# Altium schematic symbol library Cyberdeck.SchLib: 178 symbols (part 2 of 5)
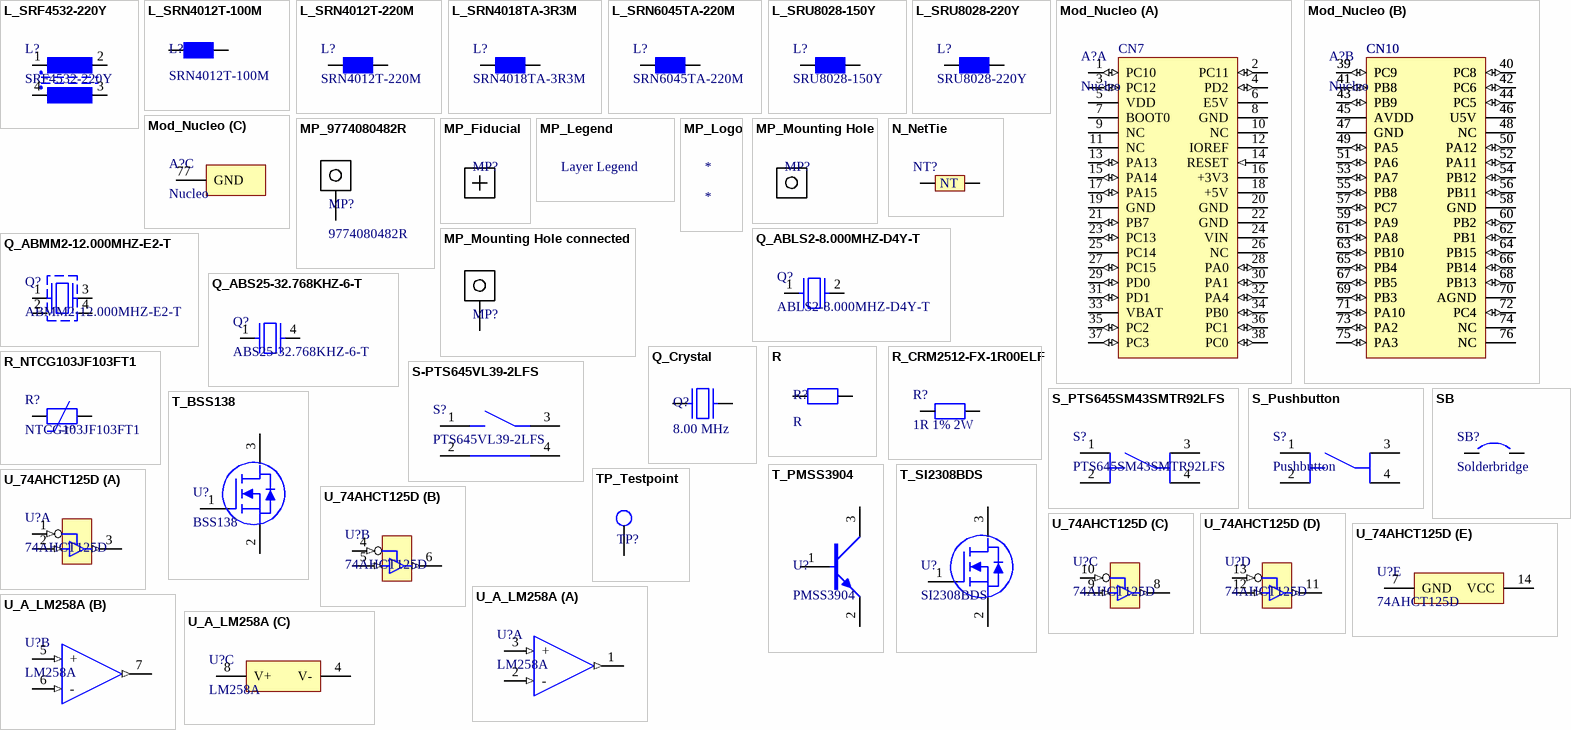
[diagram p6: symbols L_SRF4532-220Y to U_A_LM258A]

## L_SRN4012T-100M
designator L?, comment SRN4012T-100M
Surface Mount Power Inductor, SRN4012T Series, 10 H, 1.1 A, 800 mA, Semishielded, 0.18 ohm; Manufacturer 1: Bourns; Supplier 1: Digi-Key; Supplier Part Number 1: SRN4012T-100M-CT-ND; Case/Package: Nonstandard; Manufacturer Part Number 1: SRN4012T-100M; ComponentLink1URL: https://datasheet.ciiva.com/48954/70479816-48954559.pdf; ComponentLink1Description: https://datasheet.ciiva.com/48954/70479816-48954559.pdf
footprint SRN4012T (SRN4012T Series - Semi-shielded Power Inductors)
pins: 1, 2

## L_SRN4012T-220M
designator L?, comment SRN4012T-220M
Surface Mount Power Inductor, SRN4012T Series, 22 H, 620 mA, 500 mA, Semishielded, 0.4 ohm; Manufacturer 1: Bourns; Supplier 1: Digi-Key; Supplier Part Number 1: SRN4012T-220MCT-ND; Manufacturer Part Number 1: SRN4012T-220M; ComponentLink1URL: http://www.farnell.com/datasheets/1880652.pdf; ComponentLink1Description: http://www.farnell.com/datasheets/1880652.pdf; ComponentLink2URL: http://www.mouser.com/ds/2/54/rn4012t-778048.pdf; ComponentLink2Description: http://www.mouser.com/ds/2/54/rn4012t-778048.pdf; ComponentLink3URL: http://www.bourns.com/docs/Product-Datasheets/SRN4012T.pdf; ComponentLink3Description: http://www.bourns.com/docs/Product-Datasheets/SRN4012T.pdf
footprint SRN4012T (SRN4012T Series - Semi-shielded Power Inductors)
pins: 1, 2

## L_SRN4018TA-3R3M
designator L?, comment SRN4018TA-3R3M
FIXED IND 3.3UH 2A 55 MOHM; Manufacturer: Bourns; Supplier 1: Digi-Key; Supplier Part Number 1: SRN4018TA-3R3MCT-ND; Manufacturer Part Number: SRN4018TA-3R3M; ComponentLink1Description: https://www.bourns.com/docs/Product-Datasheets/SRN4018TA.pdf; ComponentLink1URL: https://www.bourns.com/docs/Product-Datasheets/SRN4018TA.pdf
footprint SRN4018TA (SRN4018TA Series - Semi-shielded Power Inductors)
pins: 1, 2

## L_SRN6045TA-220M
designator L?, comment SRN6045TA-220M
SRN6045TA-220M    Surface Mount Power Inductor, AEC-Q200, SRN6045TA Series, 22 H, 2.3 A, 3.3 A, Semishielded; Manufacturer: Bourns; Number of Outputs: 1; Min Input Voltage: 2.7V; Max Input Voltage: 5.5V; Min Output Voltage: 600mV; Output Current: 2A; Switching Frequency: 1MHz; Synchronous Rectifier: Yes; Output Type: Adjustable; Output Configuration: Positive; Supplier 1: Digi-Key; Supplier Part Number 1: SRN6045TA-220MCT-ND; Manufacturer Part Number: SRN6045TA-220M; ComponentLink1Description: https://www.bourns.com/docs/Product-Datasheets/SRN6045TA.pdf; ComponentLink1URL: https://www.bourns.com/docs/Product-Datasheets/SRN6045TA.pdf; Supplier 2: Digi-Key; Supplier Part Number 2: AP3429AKTTR-G1DICT-ND; Stock 2: 23700; Pricing 2: 1=0.42, 10=0.339, 100=0.2307, 500=0.17304, 1000=0.12978 (USD); Mount: Surface Mount; Case/Package: SOT-23-5; Min Operating Temperature: -40°C; Max Operating Temperature: 85°C; Packaging: Tape and Reel; Max Output Voltage: 5.5V
footprint SRN6045TA (SRN6045TA Series - Semi-shielded Power Inductors)
pins: 1, 2

## L_SRU8028-150Y
designator L?, comment SRU8028-150Y
Fixed Inductors 15uH 30% SMD 8028; Manufacturer 1: Bourns; Supplier 1: Digi-Key; Supplier Part Number 1: SRU8028-150YCT-ND; Manufacturer Part Number 1: SRU8028-150Y; ComponentLink1URL: https://datasheet.ciiva.com/48684/sru8028-48684958.pdf; ComponentLink1Description: https://datasheet.ciiva.com/48684/sru8028-48684958.pdf; ComponentLink2URL: https://datasheet.ciiva.com/17285/sru8028-17285547.pdf; ComponentLink2Description: https://datasheet.ciiva.com/17285/sru8028-17285547.pdf; ComponentLink3URL: https://datasheet.ciiva.com/6703/sru8028-6703878.pdf; ComponentLink3Description: https://datasheet.ciiva.com/6703/sru8028-6703878.pdf
footprint SRU8028 (SRU8028 Series - Shielded Power Inductors, IPC Medium Density)
pins: 1, 2

## L_SRU8028-220Y
designator L?, comment SRU8028-220Y
Fixed Inductors 22uH 30% SMD 8028; Manufacturer: Bourns; ComponentLink1URL: https://datasheet.ciiva.com/48684/sru8028-48684958.pdf; ComponentLink1Description: https://datasheet.ciiva.com/48684/sru8028-48684958.pdf; ComponentLink2URL: https://datasheet.ciiva.com/17285/sru8028-17285547.pdf; ComponentLink2Description: https://datasheet.ciiva.com/17285/sru8028-17285547.pdf; ComponentLink3URL: https://datasheet.ciiva.com/6703/sru8028-6703878.pdf; ComponentLink3Description: https://datasheet.ciiva.com/6703/sru8028-6703878.pdf; Supplier 1: Digi-Key; Supplier Part Number 1: SRU8028-220YCT-ND; Manufacturer Part Number: SRU8028-220Y; Case/Package: 8028; ComponentLink14URL: https://datasheet.ciiva.com/6691/sru8028-6691834.pdf; ComponentLink14Description: https://datasheet.ciiva.com/6691/sru8028-6691834.pdf; ComponentLink15URL: https://datasheet.ciiva.com/6691/sru8028-6691836.pdf; ComponentLink15Description: https://datasheet.ciiva.com/6691/sru8028-6691836.pdf; ComponentLink16URL: https://datasheet.ciiva.com/6161/sru8028-6161214.pdf; ComponentLink16Description: https://datasheet.ciiva.com/6161/sru8028-6161214.pdf; ComponentLink17URL: https://datasheet.ciiva.com/17285/sru8028-17285550.pdf; ComponentLink17Description: https://datasheet.ciiva.com/17285/sru8028-17285550.pdf
footprint SRU8028 (SRU8028 Series - Shielded Power Inductors, IPC Medium Density)
pins: 1, 2

## Mod_Nucleo
designator A?, comment Nucleo
footprint MOD NUCLEO
part A pins: 1 PC10 (io), 2 PC11 (io), 3 PC12 (io), 4 PD2 (io), 5 VDD (power), 6 E5V (power), 7 BOOT0, 8 GND (power), 9 NC, 10 NC, 11 NC, 12 IOREF (power), 13 PA13 (io), 14 RESET (in), 15 PA14 (io), 16 +3V3 (power), 17 PA15 (io), 18 +5V (power), 19 GND (power), 20 GND (power), 21 PB7 (io), 22 GND (power), 23 PC13 (io), 24 VIN (power), 25 PC14 (power), 26 NC, 27 PC15 (io), 28 PA0 (io), 29 PD0 (io), 30 PA1 (io), 31 PD1 (io), 32 PA4 (io), 33 VBAT (power), 34 PB0 (io), 35 PC2 (io), 36 PC1 (io), 37 PC3 (io), 38 PC0 (io)
part B pins: 39 PC9 (io), 39 PC9 (io), 40 PC8 (io), 40 PC8 (io), 41 PB8 (io), 41 PB8 (io), 42 PC6 (io), 42 PC6 (io), 43 PB9 (io), 43 PB9 (io), 44 PC5 (io), 44 PC5 (io), 45 AVDD (power), 45 AVDD (power), 46 U5V (power), 46 U5V (power), 47 GND (power), 47 GND (power), 48 NC, 48 NC, 49 PA5 (io), 49 PA5 (io), 50 PA12 (io), 50 PA12 (io), 51 PA6 (io), 51 PA6 (io), 52 PA11 (io), 52 PA11 (io), 53 PA7 (io), 53 PA7 (io), 54 PB12 (io), 54 PB12 (io), 55 PB8 (io), 55 PB8 (io), 56 PB11 (io), 56 PB11 (io), 57 PC7 (io), 57 PC7 (io), 58 GND (power), 58 GND (power), 59 PA9 (io), 59 PA9 (io), 60 PB2 (io), 60 PB2 (io), 61 PA8 (io), 61 PA8 (io), 62 PB1 (io), 62 PB1 (io), 63 PB10 (io), 63 PB10 (io), 64 PB15 (io), 64 PB15 (io), 65 PB4 (io), 65 PB4 (io), 66 PB14 (io), 66 PB14 (io), 67 PB5 (io), 67 PB5 (io), 68 PB13 (io), 68 PB13 (io), 69 PB3 (io), 69 PB3 (io), 70 AGND (power), 70 AGND (power), 71 PA10 (io), 71 PA10 (io), 72 PC4 (io), 72 PC4 (io), 73 PA2 (io), 73 PA2 (io), 74 NC, 74 NC, 75 PA3 (io), 75 PA3 (io), 76 NC, 76 NC
part C pins: 77 GND (power)
part A text: CN7
part B text: CN10

## MP_9774080482R
designator MP?, comment 9774080482R
WA-SMSI SMT Steel Spacer, M4 Thread Internal; Manufacturer: Wurth Electronics; Supplier 1: Farnell; Supplier Part Number 1: 2847858; Manufacturer Part Number: 9774080482R; ComponentLink1Description: http://www.farnell.com/datasheets/2580479.pdf; ComponentLink1URL: http://www.farnell.com/datasheets/2580479.pdf
footprint 9774080482 (WA-SMSI SMT Steel Spacer, M4)
pins: 1

## MP_Fiducial
designator MP?, comment Fiducial  (value not drawn)  (no BOM)
footprint REF1
footprint REF1 - small
footprint REF2
footprint REF2 - small
footprint REF3
footprint REF3 - small
footprint REF - smaller

## MP_Legend
designator ?  (value not drawn)  (no BOM)
Layer legend
footprint Layerlegend
footprint PCB LEGEND (Layerlegend)
text: Layer Legend

## MP_Logo
designator *
footprint Safematic_Logo (Logo)

## MP_Mounting Hole
designator MP?, comment Mounting Hole  (value not drawn)  (no BOM)
Different Mounting holes
footprint M3x08S - Erdung
footprint M25x05S
footprint M3x08S
footprint 9774080482 (WA-SMSI SMT Steel Spacer, M4)
footprint M2 2.3

## MP_Mounting Hole connected
designator MP?, comment Mounting Hole  (value not drawn)  (no BOM)
Different Mounting holes; Manufacturer: Wurth Electronics; Manufacturer Part Number: 9774080482R; Supplier 1: Farnell; Supplier Part Number 1: 2847858; Stock 1: 49; Pricing 1: 1=1.59, 50=1.51, 100=1.44 (EUR)
footprint M3x08S - Erdung
footprint 9774080482 (WA-SMSI SMT Steel Spacer, M4)
pins: 1

## N_NetTie
designator NT?, comment NetTie  (value not drawn)  (net tie, no BOM)
Net tie
footprint NetTie (0603 fooprint)
footprint NETTIE_TH
pins: 1, 2
text: NT

## Q_ABLS2-8.000MHZ-D4Y-T
designator Q?, comment ABLS2-8.000MHZ-D4Y-T
8MHz ±30ppm Crystal 18pF 80 Ohm -40°C ~ 85°C  Surface Mount HC49/US; Manufacturer: Abracon; Supplier 1: Digi-Key; Supplier Part Number 1: 535-9864-1-ND; Manufacturer Part Number: ABLS2-8.000MHZ-D4Y-T; ComponentLink1URL: https://datasheet.ciiva.com/15116/getdatasheetpartid-719893-15116778.pdf; ComponentLink1Description: https://datasheet.ciiva.com/15116/getdatasheetpartid-719893-15116778.pdf; ComponentLink2URL: https://datasheet.ciiva.com/3174/abls2-3174136.pdf; ComponentLink2Description: https://datasheet.ciiva.com/3174/abls2-3174136.pdf; ComponentLink3URL: https://datasheet.ciiva.com/854/abls2-854378.pdf; ComponentLink3Description: https://datasheet.ciiva.com/854/abls2-854378.pdf; ComponentLink4URL: https://datasheet.ciiva.com/854/abls2-854379.pdf; ComponentLink4Description: https://datasheet.ciiva.com/854/abls2-854379.pdf; ComponentLink5URL: https://datasheet.ciiva.com/7998/1749648-7998491.pdf; ComponentLink5Description: https://datasheet.ciiva.com/7998/1749648-7998491.pdf; ComponentLink6URL: https://datasheet.ciiva.com/854/abls2-854380.pdf; ComponentLink6Description: https://datasheet.ciiva.com/854/abls2-854380.pdf; ComponentLink7URL: https://datasheet.ciiva.com/28508/1749648-28508412.pdf; ComponentLink7Description: https://datasheet.ciiva.com/28508/1749648-28508412.pdf; ComponentLink8URL: https://datasheet.ciiva.com/16292/abls2-16292557.pdf; ComponentLink8Description: https://datasheet.ciiva.com/16292/abls2-16292557.pdf
footprint ABLS2 (CRYSTAL Abracon LLC)
pins: 1, 2

## Q_ABMM2-12.000MHZ-E2-T
designator Q?, comment ABMM2-12.000MHZ-E2-T
12MHz ±20ppm Crystal 18pF 50 Ohm -20°C ~ 70°C  Surface Mount 4-SMD, No Lead (DFN, LCC); Manufacturer: Abracon; Supplier 1: Digi-Key; Supplier Part Number 1: 535-9631-1-ND; Manufacturer Part Number: ABMM2-12.000MHZ-E2-T; Case/Package: CSMD; ComponentLink1URL: https://datasheet.ciiva.com/15116/getdatasheetpartid-719825-15116727.pdf; ComponentLink1Description: https://datasheet.ciiva.com/15116/getdatasheetpartid-719825-15116727.pdf; ComponentLink2URL: https://datasheet.ciiva.com/855/abmm2-855417.pdf; ComponentLink2Description: https://datasheet.ciiva.com/855/abmm2-855417.pdf; ComponentLink3URL: https://datasheet.ciiva.com/3176/abmm2-3176137.pdf; ComponentLink3Description: https://datasheet.ciiva.com/3176/abmm2-3176137.pdf; ComponentLink4URL: https://datasheet.ciiva.com/855/abmm2-855418.pdf; ComponentLink4Description: https://datasheet.ciiva.com/855/abmm2-855418.pdf; ComponentLink5URL: https://datasheet.ciiva.com/855/abmm2-855419.pdf; ComponentLink5Description: https://datasheet.ciiva.com/855/abmm2-855419.pdf; ComponentLink6URL: https://datasheet.ciiva.com/16214/abmm2-16214428.pdf; ComponentLink6Description: https://datasheet.ciiva.com/16214/abmm2-16214428.pdf
footprint ABMM2
pins: 1, 2, 3, 4 3

## Q_ABS25-32.768KHZ-6-T
designator Q?, comment ABS25-32.768KHZ-6-T
32.768kHz ±20ppm Crystal 6pF 50 kOhm -40°C ~ 85°C  Surface Mount 4-SOJ, 5.50mm pitch; Manufacturer: Abracon; Supplier 1: Digi-Key; Supplier Part Number 1: 535-10240-1-ND; Manufacturer Part Number: ABS25-32.768KHZ-6-T; Case/Package: SMD/SMT; ComponentLink1URL: https://datasheet.ciiva.com/854/abs25-854528.pdf; ComponentLink1Description: https://datasheet.ciiva.com/854/abs25-854528.pdf; ComponentLink2URL: https://datasheet.ciiva.com/26909/getdatasheetpartid-722397-26909970.pdf; ComponentLink2Description: https://datasheet.ciiva.com/26909/getdatasheetpartid-722397-26909970.pdf; ComponentLink3URL: https://datasheet.ciiva.com/854/abs25-854529.pdf; ComponentLink3Description: https://datasheet.ciiva.com/854/abs25-854529.pdf; ComponentLink4URL: https://datasheet.ciiva.com/5788/abs25-5788102.pdf; ComponentLink4Description: https://datasheet.ciiva.com/5788/abs25-5788102.pdf; ComponentLink5URL: https://datasheet.ciiva.com/7998/1856019-7998662.pdf; ComponentLink5Description: https://datasheet.ciiva.com/7998/1856019-7998662.pdf; ComponentLink6URL: https://datasheet.ciiva.com/1357/1856019-1357324.pdf; ComponentLink6Description: https://datasheet.ciiva.com/1357/1856019-1357324.pdf; ComponentLink7URL: https://datasheet.ciiva.com/854/abs25-854527.pdf; ComponentLink7Description: https://datasheet.ciiva.com/854/abs25-854527.pdf
footprint ABS25
pins: 1, 4

## Q_Crystal
designator Q?, comment 8.00 MHz
Crystal, generic
footprint ABLS2 (CRYSTAL Abracon LLC)
pins: 1, 2

## R
designator R?
Resistor, generic
footprint 0402_R
footprint 0603_R
footprint 0805_R
footprint 1206_R
footprint 1210_R
footprint 1218_R
footprint 2010_R
footprint 2512_R
footprint 0201_R (Chip Resistor, 2-Leads, Body 0.60x0.30mm, IPC Medium Density)
footprint 01005_R (Chip Resistor, 2-Leads, Body 0.40x0.20mm, IPC Medium Density)
footprint 10mm_tht_r
footprint 10.61mm_tht_r
pins: 1, 2

## R_CRM2512-FX-1R00ELF
designator R?, comment 1R 1% 2W
RES SMD 1 OHM 1% 2W 2512; Manufacturer 1: Bourns; Manufacturer Part Number 1: CRM2512-FX-1R00ELF; Supplier 1: Digi-Key; Supplier Part Number 1: CRM2512-FX-1R00ELFCT-ND; Case/Package: 2512; ComponentLink1URL: https://datasheet.ciiva.com/22713/1695365-22713390.pdf; ComponentLink1Description: https://datasheet.ciiva.com/22713/1695365-22713390.pdf; ComponentLink2URL: https://datasheet.ciiva.com/2591/crm-2591396.pdf; ComponentLink2Description: https://datasheet.ciiva.com/2591/crm-2591396.pdf
footprint 2512_R
pins: 1 2, 2

## R_NTCG103JF103FT1
designator R?, comment NTCG103JF103FT1
THERMISTOR NTC 10K OHM 1% 0402; Manufacturer: TDK; Supplier 1: Digi-Key; Supplier Part Number 1: 445-2550-1-ND; Manufacturer Part Number: NTCG103JF103FT1; Case/Package: 0402; ComponentLink1URL: https://datasheet.ciiva.com/2848/ntcg103jf103ft1-web-2848583.pdf; ComponentLink1Description: https://datasheet.ciiva.com/2848/ntcg103jf103ft1-web-2848583.pdf; ComponentLink2URL: https://datasheet.ciiva.com/2848/ntcg103jf103ft1-web-2848584.pdf; ComponentLink2Description: https://datasheet.ciiva.com/2848/ntcg103jf103ft1-web-2848584.pdf; ComponentLink3URL: https://datasheet.ciiva.com/2848/ntcg103jf103ft1-web-2848585.pdf; ComponentLink3Description: https://datasheet.ciiva.com/2848/ntcg103jf103ft1-web-2848585.pdf
footprint 0402_R
pins: 1, 2
text: -t°

## S-PTS645VL39-2LFS
designator S?, comment PTS645VL39-2LFS
SWITCH TACTILE SPST-NO 0.05A 12V; Manufacturer: ITT C&K; Mechanical Life: 100000Cycles; Actuator Material: Nylon,Polyamide; Operating Force: 130gf; Throw Configuration: SPST; Current Rating: 50mA; Illumination Type: Illuminated,Non-Illuminated; Switch Function: Off-Mom; Actuator Type: Standard; Supplier 1: Digi-Key; Supplier Part Number 1: CKN9103-ND; Manufacturer Part Number: PTS645VL39-2LFS; RoHS: Yes; Mount: Through Hole; Contact Plating: Silver; Contact Material: Brass,Bronze,Silver; Color: Black; Min Operating Temperature: -20°C; Max Operating Temperature: 60°C; Packaging: Bulk; Max Voltage Rating (DC): 12V; Termination: PC Pins; Voltage Rating (DC): 12V; Package Quantity: 1000; Max Current Rating: 50mA; Orientation: Right Angle; Length: 7.5mm; Depth: 7.8mm; REACH SVHC: No SVHC; Lead Free: Lead Free; ComponentLink1URL: https://www.ckswitches.com/media/1471/pts645.pdf?src-supplier=Digi-Key; ComponentLink1Description: https://www.ckswitches.com/media/1471/pts645.pdf?src-supplier=Digi-Key; ComponentLink2URL: https://www.verical.com/server-webapp/html/getDatasheet?partID=764616&src-supplier=Verical; ComponentLink2Description: https://www.verical.com/server-webapp/html/getDatasheet?partID=764616&src-supplier=Verical
footprint PTS645VL31-2 LFS
pins: 1 16, 2 17, 3 18, 4 19

## S_PTS645SM43SMTR92LFS
designator S?, comment PTS645SM43SMTR92LFS
SWITCH TACTILE SPST-NO 0.05A 12V; Manufacturer 1: ITT C&K; Supplier 1: Digi-Key; Supplier Part Number 1: CKN9112CT-ND; Manufacturer Part Number 1: PTS645SM43SMTR92LFS; ComponentLink1URL: https://datasheet.ciiva.com/29931/getdatasheetpartid-764615-29931183.pdf; ComponentLink1Description: https://datasheet.ciiva.com/29931/getdatasheetpartid-764615-29931183.pdf; ComponentLink2URL: https://datasheet.ciiva.com/29903/getdatasheetpartid-786341-29903846.pdf; ComponentLink2Description: https://datasheet.ciiva.com/29903/getdatasheetpartid-786341-29903846.pdf; ComponentLink3URL: https://datasheet.ciiva.com/14920/pts645-14920734.pdf; ComponentLink3Description: https://datasheet.ciiva.com/14920/pts645-14920734.pdf; ComponentLink4URL: https://datasheet.ciiva.com/14920/pts645-14920735.pdf; ComponentLink4Description: https://datasheet.ciiva.com/14920/pts645-14920735.pdf; ComponentLink5URL: https://datasheet.ciiva.com/14920/pts645-14920733.pdf; ComponentLink5Description: https://datasheet.ciiva.com/14920/pts645-14920733.pdf
footprint PTS645S (PTS645S  SWITCH TACTILE SPST-NO)
pins: 1 16, 2 17, 3 18, 4 19

## S_Pushbutton
designator S?, comment Pushbutton
Generic Pushbutton
footprint PTS645S (PTS645S  SWITCH TACTILE SPST-NO)
pins: 1 16, 2 17, 3 18, 4 19

## SB
designator SB?, comment Solderbridge
footprint Solderjumper
pins: 1, 2

## T_BSS138
designator U?, comment BSS138
MOSFET N-CH 50V 220MA SOT-23; Manufacturer: ON Semiconductor / Fairchild; Supplier 1: Digi-Key; Supplier Part Number 1: BSS138DKR-ND; Manufacturer Part Number: BSS138; Case/Package: SOT-23; ComponentLink1URL: https://datasheet.ciiva.com/931/bss138-931776.pdf; ComponentLink1Description: https://datasheet.ciiva.com/931/bss138-931776.pdf; ComponentLink2URL: https://datasheet.ciiva.com/1190/193736-1190130.pdf; ComponentLink2Description: https://datasheet.ciiva.com/1190/193736-1190130.pdf; ComponentLink3URL: https://datasheet.ciiva.com/1190/193736-1190131.pdf; ComponentLink3Description: https://datasheet.ciiva.com/1190/193736-1190131.pdf; ComponentLink4URL: https://datasheet.ciiva.com/1254/193736-1254983.pdf; ComponentLink4Description: https://datasheet.ciiva.com/1254/193736-1254983.pdf; ComponentLink5URL: https://datasheet.ciiva.com/3304/bss138-3304423.pdf; ComponentLink5Description: https://datasheet.ciiva.com/3304/bss138-3304423.pdf; ComponentLink6URL: https://datasheet.ciiva.com/3304/bss138-3304424.pdf; ComponentLink6Description: https://datasheet.ciiva.com/3304/bss138-3304424.pdf; ComponentLink7URL: https://datasheet.ciiva.com/22655/193736-22655240.pdf; ComponentLink7Description: https://datasheet.ciiva.com/22655/193736-22655240.pdf; ComponentLink8URL: https://datasheet.ciiva.com/16834/bss138-16834843.pdf; ComponentLink8Description: https://datasheet.ciiva.com/16834/bss138-16834843.pdf; ComponentLink9URL: https://datasheet.ciiva.com/27050/784896-27050043.pdf; ComponentLink9Description: https://datasheet.ciiva.com/27050/784896-27050043.pdf; ComponentLink10URL: https://datasheet.ciiva.com/26229/bss138-26229007.pdf; ComponentLink10Description: https://datasheet.ciiva.com/26229/bss138-26229007.pdf
footprint SOT-23 (SOT23, 3-Leads, Body 2.90x2.45mm, Pitch 0.95mm, IPC Medium Density)
pins: 1 G, 2 S, 3 D

## T_PMSS3904
designator U?, comment PMSS3904
TRANS NPN 40V 0.1A SOT323; Manufacturer: NXP Semiconductors; Manufacturer Part Number: PMSS3904,115; Max Power Dissipation: 200mW; Collector Base Voltage (VCBO): 60V; Max Collector Current: 100mA; Emitter Base Voltage (VEBO): 6V; Element Configuration: Single; Gain Bandwidth Product: 180MHz; Number of Elements: 1; Supplier 1: Digi-Key; Supplier Part Number 1: 1727-6290-1-ND; RoHS: Yes; Stock 1: 5101; Pricing 1: 1 = 0.21000, 10 = 0.17400, 100 = 0.09250, 500 = 0.06084, 1000 = 0.04137 (USD); Mount: Surface Mount; Case/Package: SOT-323; Number of Pins: 3; Min Operating Temperature: -65°C; Max Operating Temperature: 150°C; Collector Emitter Voltage (VCEO): 40V; Packaging: Tape and Reel; Package Quantity: 1; Polarity: NPN; Transition Frequency: 180MHz; Collector Emitter Breakdown Voltage: 40V; Frequency: 180MHz; Max Breakdown Voltage: 40V; Power Dissipation: 200mW; Radiation Hardening: No; Lead Free: Lead Free; ComponentLink1URL: http://www.nxp.com/documents/data_sheet/PMSS3904.pdf; ComponentLink1Description: http://www.nxp.com/documents/data_sheet/PMSS3904.pdf; ComponentLink2URL: http://www.mouser.com/ds/2/302/PMSS3904-353457.pdf; ComponentLink2Description: http://www.mouser.com/ds/2/302/PMSS3904-353457.pdf
footprint SOT323
pins: 1 G, 2 S, 3 D

## T_SI2308BDS
designator U?, comment SI2308BDS
Trans MOSFET N-CH 60V 1.9A 3-Pin SOT-23 T/R; Manufacturer 1: Vishay; Manufacturer Part Number 1: SI2308BDS-T1-GE3; Supplier 1: Digi-Key; Supplier Part Number 1: SI2308BDS-T1-GE3CT-ND; Case/Package: SOT-23; ComponentLink1URL: https://datasheet.ciiva.com/17068/0900766b80ed1e93-17068482.pdf; ComponentLink1Description: https://datasheet.ciiva.com/17068/0900766b80ed1e93-17068482.pdf; ComponentLink2URL: https://datasheet.ciiva.com/26139/si2308bd-26139136.pdf; ComponentLink2Description: https://datasheet.ciiva.com/26139/si2308bd-26139136.pdf; ComponentLink3URL: https://datasheet.ciiva.com/28603/1911751-28603483.pdf; ComponentLink3Description: https://datasheet.ciiva.com/28603/1911751-28603483.pdf; ComponentLink4URL: https://datasheet.ciiva.com/6388/si2308bd-6388236.pdf; ComponentLink4Description: https://datasheet.ciiva.com/6388/si2308bd-6388236.pdf; ComponentLink5URL: https://datasheet.ciiva.com/6388/si2308bd-6388237.pdf; ComponentLink5Description: https://datasheet.ciiva.com/6388/si2308bd-6388237.pdf; ComponentLink6URL: https://datasheet.ciiva.com/7643/si2308bd-7643237.pdf; ComponentLink6Description: https://datasheet.ciiva.com/7643/si2308bd-7643237.pdf; ComponentLink7URL: https://datasheet.ciiva.com/16221/si2308bd-16221719.pdf; ComponentLink7Description: https://datasheet.ciiva.com/16221/si2308bd-16221719.pdf; ComponentLink8URL: https://datasheet.ciiva.com/6388/si2308bd-6388235.pdf; ComponentLink8Description: https://datasheet.ciiva.com/6388/si2308bd-6388235.pdf
footprint SOT-23 (SOT23, 3-Leads, Body 2.90x2.45mm, Pitch 0.95mm, IPC Medium Density)
pins: 1 G, 2 S, 3 D

## TP_Testpoint
designator TP?, comment TP  (value not drawn)  (no BOM)
Testpoint
footprint Testpoint_50mil (Testpoint)
footprint Pin Header 1x1 TH Pitch 2.54mm TP (PinHeader 1x1 TH Pitch 2.54mm)
footprint 1040
footprint 1002m (Vogt 1002m)
pins: 1

## U_74AHCT125D
designator U?, comment 74AHCT125D
74AHCT125D/SO14/REEL13//; Manufacturer: NXP Semiconductors; Manufacturer Part Number: 74AHCT125D,118; Logic Function: Buffer,Inverting; Polarity: Non-Inverting; Max Supply Voltage: 5.5V; Min Supply Voltage: 4.5V; Propagation Delay: 11ns; Low Level Output Current: 8mA; Number of Input Lines: 4; High Level Output Current: -8mA; Operating Supply Voltage: 5V; Quiescent Current: 2uA; Number of Bits per Element: 1; Supplier 1: Digi-Key; Supplier Part Number 1: 1727-7293-1-ND; RoHS: Yes; Stock 1: 1450; Pricing 1: 1 = 0.43000, 10 = 0.34900, 25 = 0.31920, 100 = 0.23760, 250 = 0.21536, 500 = 0.17822, 1000 = 0.13367 (USD); Mount: Surface Mount; Case/Package: SO; Number of Pins: 14; Contact Plating: Gold; Min Operating Temperature: -40°C; Max Operating Temperature: 125°C; Packaging: Tape and Reel; Package Quantity: 2500; Number of Output Lines: 4; Number of Inputs: 4; Number of Channels: 4; Number of Outputs: 4; Number of Elements: 4; Turn-On Delay Time: 11ns; Radiation Hardening: No; Lead Free: Lead Free; ComponentLink1URL: http://www.nxp.com/documents/data_sheet/74AHC_AHCT125.pdf?src-supplier=Digi-Key; ComponentLink1Description: http://www.nxp.com/documents/data_sheet/74AHC_AHCT125.pdf?src-supplier=Digi-Key; ComponentLink2URL: http://ics.nxp.com/logic/to/documents/data_sheet/74AHC_AHCT125.pdf?src-supplier=Avnet+Europe; ComponentLink2Description: http://ics.nxp.com/logic/to/documents/data_sheet/74AHC_AHCT125.pdf?src-supplier=Avnet+Europe
footprint TSSOP-14 (TSOP, 14-Leads, Body 5.00x4.40mm, Pitch 0.65mm, IPC Medium Density)
footprint SOP 14 (SOIC, 14-Leads, Body 8.65x3.80mm, Pitch 1.27mm, IPC Medium Density)
part A pins: 1 (in), 2 (in), 3 (out)
part B pins: 4 (in), 5 (in), 6 (out)
part C pins: 8 (out), 9 (in), 10 (in)
part D pins: 11 (out), 12 (in), 13 (in)
part E pins: 7 GND (power), 14 VCC (power)

## U_A_LM258A
designator U?, comment LM258A
IC OPAMP GP 700KHZ 8SOIC; Manufacturer 1: Texas Instruments; Manufacturer Part Number 1: LM258ADR; ComponentLink1URL: https://datasheet.ciiva.com/46382/1874566-46382412.pdf; ComponentLink1Description: https://datasheet.ciiva.com/46382/1874566-46382412.pdf; ComponentLink2URL: https://datasheet.ciiva.com/26264/lm358a-26264541.pdf; ComponentLink2Description: https://datasheet.ciiva.com/26264/lm358a-26264541.pdf; ComponentLink3URL: https://datasheet.ciiva.com/22657/1874566-22657182.pdf; ComponentLink3Description: https://datasheet.ciiva.com/22657/1874566-22657182.pdf; ComponentLink4URL: https://datasheet.ciiva.com/1795/lm258a-1795564.pdf; ComponentLink4Description: https://datasheet.ciiva.com/1795/lm258a-1795564.pdf; ComponentLink5URL: https://datasheet.ciiva.com/2973/lm358a-2973282.pdf; ComponentLink5Description: https://datasheet.ciiva.com/2973/lm358a-2973282.pdf; ComponentLink6URL: https://datasheet.ciiva.com/1795/lm258a-1795562.pdf; ComponentLink6Description: https://datasheet.ciiva.com/1795/lm258a-1795562.pdf; ComponentLink7URL: https://datasheet.ciiva.com/1795/lm258a-1795563.pdf; ComponentLink7Description: https://datasheet.ciiva.com/1795/lm258a-1795563.pdf; ComponentLink8URL: https://datasheet.ciiva.com/1795/cd00000464-1795677.pdf; ComponentLink8Description: https://datasheet.ciiva.com/1795/cd00000464-1795677.pdf; ComponentLink9URL: https://datasheet.ciiva.com/1795/cd00000464-1795678.pdf; ComponentLink9Description: https://datasheet.ciiva.com/1795/cd00000464-1795678.pdf; ComponentLink10URL: https://datasheet.ciiva.com/22696/1862552-22696219.pdf; ComponentLink10Description: https://datasheet.ciiva.com/22696/1862552-22696219.pdf; ComponentLink11URL: https://datasheet.ciiva.com/1795/cd00000464-1795676.pdf; ComponentLink11Description: https://datasheet.ciiva.com/1795/cd00000464-1795676.pdf; Supplier 1: Digi-Key; Supplier Part Number 1: 296-15169-1-ND; Case/Package: SOIC
footprint SO8 (SOIC, 8-Leads, Body 4.90x3.90mm, Pitch 1.27mm, IPC Medium Density)
part A pins: 1 (out), 2 - (in), 3 + (in)
part B pins: 5 + (in), 6 - (in), 7 1 (out)
part C pins: 4 V- (power), 8 V+ (power)

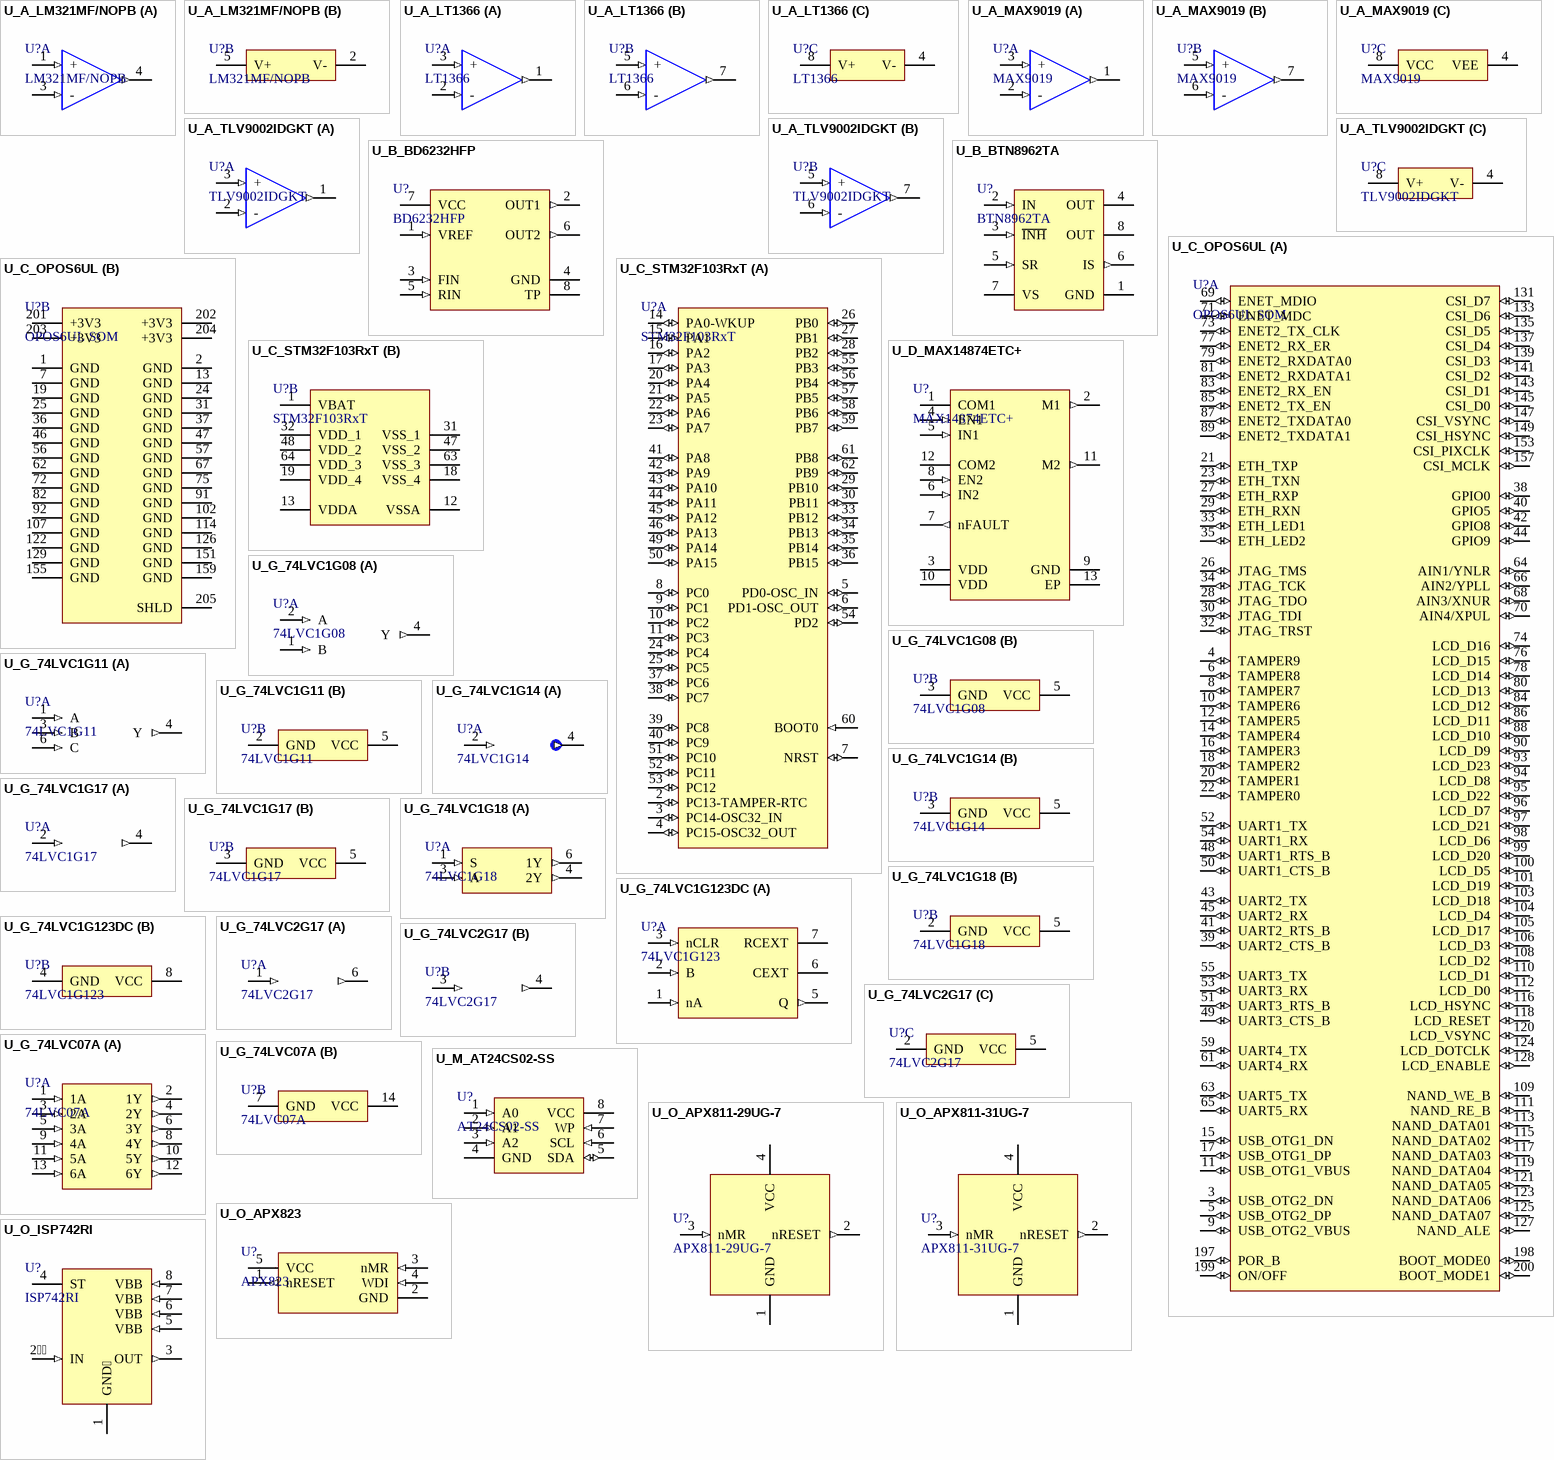
[diagram p2: symbols U_A_LM321MF/NOPB to U_O_ISP742RI]

## U_A_LM321MF/NOPB
designator U?, comment LM321MF/NOPB
Operational Amplifiers - Op Amps LOW PWR SGL OP AMP; Manufacturer 1: TI National Semiconductor; Supplier 1: Digi-Key; Supplier Part Number 1: LM321MF/NOPBCT-ND; Manufacturer Part Number 1: LM321MF/NOPB; Case/Package: SOT-23; ComponentLink1URL: https://datasheet.ciiva.com/14151/lm321-eng-tds-14151390.pdf; ComponentLink1Description: https://datasheet.ciiva.com/14151/lm321-eng-tds-14151390.pdf; ComponentLink2URL: https://datasheet.ciiva.com/31417/1771499-31417568.pdf; ComponentLink2Description: https://datasheet.ciiva.com/31417/1771499-31417568.pdf; ComponentLink3URL: https://datasheet.ciiva.com/2973/lm321-2973328.pdf; ComponentLink3Description: https://datasheet.ciiva.com/2973/lm321-2973328.pdf; ComponentLink4URL: https://datasheet.ciiva.com/5703/1771499-5703818.pdf; ComponentLink4Description: https://datasheet.ciiva.com/5703/1771499-5703818.pdf; ComponentLink5URL: https://datasheet.ciiva.com/6631/lm321-6631352.pdf; ComponentLink5Description: https://datasheet.ciiva.com/6631/lm321-6631352.pdf; ComponentLink6URL: https://datasheet.ciiva.com/5703/1771499-5703819.pdf; ComponentLink6Description: https://datasheet.ciiva.com/5703/1771499-5703819.pdf; ComponentLink7URL: https://datasheet.ciiva.com/14347/lm321-14347190.pdf; ComponentLink7Description: https://datasheet.ciiva.com/14347/lm321-14347190.pdf; ComponentLink8URL: https://datasheet.ciiva.com/6631/lm321-6631351.pdf; ComponentLink8Description: https://datasheet.ciiva.com/6631/lm321-6631351.pdf; ComponentLink9URL: https://datasheet.ciiva.com/6631/lm321-6631353.pdf; ComponentLink9Description: https://datasheet.ciiva.com/6631/lm321-6631353.pdf
footprint SOT-23-5
part A pins: 1 + (in), 3 - (in), 4 Out (out)
part B pins: 2 V- (power), 5 V+ (power)

## U_A_LT1366
designator U?, comment LT1366
IC OPAMP GP 400KHZ RRO 8SO; Manufacturer 1: Linear Technology; Manufacturer Part Number 1: LT1366CS8#PBF; Supplier 1: Digi-Key; Supplier Part Number 1: LT1366CS8#PBF-ND; Case/Package: SOIC; ComponentLink1URL: https://datasheet.ciiva.com/26851/lt1366cs8-pbf-26851234.pdf; ComponentLink1Description: https://datasheet.ciiva.com/26851/lt1366cs8-pbf-26851234.pdf; ComponentLink2URL: https://datasheet.ciiva.com/5704/1631324-5704377.pdf; ComponentLink2Description: https://datasheet.ciiva.com/5704/1631324-5704377.pdf; ComponentLink3URL: https://datasheet.ciiva.com/1795/2500-1795095.pdf; ComponentLink3Description: https://datasheet.ciiva.com/1795/2500-1795095.pdf
footprint SO8 (SOIC, 8-Leads, Body 4.90x3.90mm, Pitch 1.27mm, IPC Medium Density)
part A pins: 1 (out), 2 - (in), 3 + (in)
part B pins: 5 + (in), 6 - (in), 7 1 (out)
part C pins: 4 V- (power), 8 V+ (power)

## U_A_MAX9019
designator U?, comment MAX9019
IC COMPARATOR DUAL SOT23-8 MAX9019; Manufacturer 1: Maxim; Manufacturer Part Number 1: MAX9019EKA+T; Supplier 1: Digi-Key; Supplier Part Number 1: MAX9019EKA+TCT-ND; Case/Package: SOT-23-8; ComponentLink1URL: https://datasheet.ciiva.com/4463/max9015-max9020-109477-4463522.pdf; ComponentLink1Description: https://datasheet.ciiva.com/4463/max9015-max9020-109477-4463522.pdf; ComponentLink2URL: https://datasheet.ciiva.com/30481/0900766b81253439-30481618.pdf; ComponentLink2Description: https://datasheet.ciiva.com/30481/0900766b81253439-30481618.pdf; ComponentLink3URL: https://datasheet.ciiva.com/1828/max9015-max9020-1828112.pdf; ComponentLink3Description: https://datasheet.ciiva.com/1828/max9015-max9020-1828112.pdf; ComponentLink4URL: https://datasheet.ciiva.com/26859/max9019eka-t-26859996.pdf; ComponentLink4Description: https://datasheet.ciiva.com/26859/max9019eka-t-26859996.pdf; ComponentLink5URL: https://datasheet.ciiva.com/1828/max9015-max9020-1828111.pdf; ComponentLink5Description: https://datasheet.ciiva.com/1828/max9015-max9020-1828111.pdf; ComponentLink6URL: https://datasheet.ciiva.com/2970/max9015-max9020-2970974.pdf; ComponentLink6Description: https://datasheet.ciiva.com/2970/max9015-max9020-2970974.pdf; ComponentLink7URL: https://datasheet.ciiva.com/1828/max9015-max9020-1828113.pdf; ComponentLink7Description: https://datasheet.ciiva.com/1828/max9015-max9020-1828113.pdf; ComponentLink8URL: https://datasheet.ciiva.com/17397/max9015-max9020-17397095.pdf; ComponentLink8Description: https://datasheet.ciiva.com/17397/max9015-max9020-17397095.pdf
footprint SOT23-8 (TSOP, 8-Leads, Body 2.90x1.63mm, Pitch 0.65mm, IPC Medium Density)
part A pins: 1 (out), 2 - (in), 3 + (in)
part B pins: 5 + (in), 6 - (in), 7 1 (out)
part C pins: 4 VEE (power), 8 VCC (power)

## U_A_TLV9002IDGKT
designator U?, comment TLV9002IDGKT
TLV9002 Low-Power, Rail-to-Rail In and Out, 1-MHz Operational Amplifier; Manufacturer: Texas Instruments; Supplier 1: Digi-Key; Supplier Part Number 1: 296-49509-1-ND; Manufacturer Part Number: TLV9002IDGKT; ComponentLink1Description: http://www.ti.com/lit/ds/symlink/tlv9002.pdf; ComponentLink1URL: http://www.ti.com/lit/ds/symlink/tlv9002.pdf
footprint DGK (S-PDSO-G8) (TSOP, 8-Leads, Body 3.00x3.00mm, Pitch 0.65mm, IPC Medium Density)
part A pins: 1 (out), 2 - (in), 3 + (in)
part B pins: 5 + (in), 6 - (in), 7 1 (out)
part C pins: 4 V- (power), 8 V+ (power)

## U_B_BD6232HFP
designator U?, comment BD6232HFP
ROHM   BD6232HFP-TR   H-BRIDGE DRIVER 36V MAX, 2.0 A, HRP7; Supplier 1: Digi-Key; Supplier Part Number 1: BD6232HFPCT-ND; Manufacturer 1: Rohm; Manufacturer Part Number 1: BD6232HFP-TR; Case/Package: TO-263-8; ComponentLink1URL: https://datasheet.ciiva.com/4896/bd623x-e-209363-4896082.pdf; ComponentLink1Description: https://datasheet.ciiva.com/4896/bd623x-e-209363-4896082.pdf; ComponentLink2URL: https://datasheet.ciiva.com/1151/1645390-1151665.pdf; ComponentLink2Description: https://datasheet.ciiva.com/1151/1645390-1151665.pdf; ComponentLink3URL: https://datasheet.ciiva.com/26881/bd6232hfp-tr-26881240.pdf; ComponentLink3Description: https://datasheet.ciiva.com/26881/bd6232hfp-tr-26881240.pdf; ComponentLink4URL: https://datasheet.ciiva.com/22732/1645390-22732778.pdf; ComponentLink4Description: https://datasheet.ciiva.com/22732/1645390-22732778.pdf; ComponentLink5URL: https://datasheet.ciiva.com/1148/1645390-1148622.pdf; ComponentLink5Description: https://datasheet.ciiva.com/1148/1645390-1148622.pdf; ComponentLink6URL: https://datasheet.ciiva.com/1959/bd623x-e-1959626.pdf; ComponentLink6Description: https://datasheet.ciiva.com/1959/bd623x-e-1959626.pdf; ComponentLink7URL: https://datasheet.ciiva.com/1959/bd623x-e-1959624.pdf; ComponentLink7Description: https://datasheet.ciiva.com/1959/bd623x-e-1959624.pdf; ComponentLink8URL: https://datasheet.ciiva.com/1959/bd623x-e-1959625.pdf; ComponentLink8Description: https://datasheet.ciiva.com/1959/bd623x-e-1959625.pdf
footprint HRP7
pins: 1 VREF (in), 2 OUT1 (out), 3 FIN (in), 4 GND (power), 5 RIN (in), 6 OUT2 (out), 7 VCC (power), 8 TP (power)

## U_B_BTN8962TA
designator U?, comment BTN8962TA
High Current PN Half Bridge, 5.5 to 40 V, 7 uA Iq, PG-TO263-7, Reel, Green; Manufacturer 1: Infineon; Manufacturer Part Number 1: BTN8962TAAUMA1; ComponentLink1Description: Manufacturer URL; ComponentLink1URL: http://www.infineon.com/; ComponentLink2Description: Datasheet; ComponentLink2URL: http://www.infineon.com/dgdl/BTN8962TA-Data-Sheet-rev10-Infineon.pdf?folderId=db3a30431ff98815012060aedcd46179&fileId=db3a30433fa9412f013fbe2d247a7bf5; ComponentLink3Description: Package Specification; ComponentLink3URL: http://www.infineon.com/dgdl/BTN8982TA-Data-Sheet-rev10-Infineon.pdf?folderId=db3a30431ff98815012060aedcd46179&fileId=db3a30433fa9412f013fbe32289b7c17&ack=t; Supplier 1: Digi-Key; Supplier Part Number 1: BTN8962TAAUMA1INCT-ND; Case/Package: TO-263-8; ComponentLink4URL: https://datasheet.ciiva.com/29901/infineon-bts8962ta-ds-v01-00-en-29901974.pdf; ComponentLink4Description: https://datasheet.ciiva.com/29901/infineon-bts8962ta-ds-v01-00-en-29901974.pdf; ComponentLink5URL: https://datasheet.ciiva.com/24115/btn8962ta-data-sheet-rev10-infineon-269695-24115813.pdf; ComponentLink5Description: https://datasheet.ciiva.com/24115/btn8962ta-data-sheet-rev10-infineon-269695-24115813.pdf; ComponentLink6URL: https://datasheet.ciiva.com/29599/infineon-btn8962ta-ds-v01-00-en-29599865.pdf; ComponentLink6Description: https://datasheet.ciiva.com/29599/infineon-btn8962ta-ds-v01-00-en-29599865.pdf; ComponentLink7URL: https://datasheet.ciiva.com/29599/infineon-btn8962ta-ds-v01-00-en-29599864.pdf; ComponentLink7Description: https://datasheet.ciiva.com/29599/infineon-btn8962ta-ds-v01-00-en-29599864.pdf; ComponentLink8URL: https://datasheet.ciiva.com/29599/infineon-btn8962ta-ds-v01-00-en-29599863.pdf; ComponentLink8Description: https://datasheet.ciiva.com/29599/infineon-btn8962ta-ds-v01-00-en-29599863.pdf
footprint INF-PG-TO263-7-1_N (DPAK, 8-Leads, Body 10x9.25mm, Pitch 1.27mm, IPC Medium Density)
footprint INF-PG-TO263-7-1_L (DPAK, 8-Leads, Body 10x9.25mm, Pitch 1.27mm, IPC High Density)
footprint INF-PG-TO263-7-1_M (DPAK, 8-Leads, Body 10x9.25mm, Pitch 1.27mm, IPC Low Density)
pins: 1 GND (power) "Ground", 2 IN (in) "Input, Defines whether high- or lowside switch is activated", 3 ~{INH} (in) "Inhibit, When set to low device goes in sleep mode", 4 OUT (power) "Power output of the bridge", 5 SR (in) "Slew Rate, The slew rate of the power switches can be adjusted by connecting a resistor between SR and GND", 6 IS (out) "Current Sense and Diagnostics", 7 VS (power) "Supply", 8 OUT (power) "Power output of the bridge"

## U_C_OPOS6UL
designator U?, comment OPOS6UL SOM
Manufacturer: TE Connectivity; Manufacturer Part Number: 2-2013289-1; Supplier 1: Digi-Key; Supplier Part Number 1: A116236CT-ND; ComponentLink1URL: https://datasheet.ciiva.com/11746/0900766b80f911ad-11746307.pdf; ComponentLink1Description: https://datasheet.ciiva.com/11746/0900766b80f911ad-11746307.pdf; ComponentLink2URL: https://datasheet.ciiva.com/30062/eng-ds-6-1773454-7-0509-30062934.pdf; ComponentLink2Description: https://datasheet.ciiva.com/30062/eng-ds-6-1773454-7-0509-30062934.pdf; ComponentLink3URL: https://datasheet.ciiva.com/15171/getdatasheetpartid-177737-15171703.pdf; ComponentLink3Description: https://datasheet.ciiva.com/15171/getdatasheetpartid-177737-15171703.pdf; ComponentLink4URL: https://datasheet.ciiva.com/16469/eng-ds-6-1773454-7-0511-16469352.pdf; ComponentLink4Description: https://datasheet.ciiva.com/16469/eng-ds-6-1773454-7-0511-16469352.pdf; ComponentLink5URL: https://datasheet.ciiva.com/3136/eng-ds-6-1773454-7-0511-3136377.pdf; ComponentLink5Description: https://datasheet.ciiva.com/3136/eng-ds-6-1773454-7-0511-3136377.pdf; ComponentLink6URL: https://datasheet.ciiva.com/16651/eng-ds-6-1773454-7-0511-16651402.pdf; ComponentLink6Description: https://datasheet.ciiva.com/16651/eng-ds-6-1773454-7-0511-16651402.pdf; ComponentLink7URL: https://datasheet.ciiva.com/16311/2-2013289-1-16311548.pdf; ComponentLink7Description: https://datasheet.ciiva.com/16311/2-2013289-1-16311548.pdf
footprint SODIMM204
part A pins: 3 USB_OTG2_DN (io), 4 TAMPER9 (io), 5 USB_OTG2_DP (io), 6 TAMPER8 (io), 8 TAMPER7 (io), 9 USB_OTG2_VBUS (io), 10 TAMPER6 (io), 11 USB_OTG1_VBUS (io), 12 TAMPER5 (io), 14 TAMPER4 (io), 15 USB_OTG1_DN (io), 16 TAMPER3 (io), 17 USB_OTG1_DP (io), 18 TAMPER2 (io), 20 TAMPER1 (io), 21 ETH_TXP (io), 22 TAMPER0 (io), 23 ETH_TXN (io), 26 JTAG_TMS (io), 27 ETH_RXP (io), 28 JTAG_TDO (io), 29 ETH_RXN (io), 30 JTAG_TDI (io), 32 JTAG_TRST (io), 33 ETH_LED1 (io), 34 JTAG_TCK (io), 35 ETH_LED2 (io), 38 GPIO0 (io), 39 UART2_CTS_B (io), 40 GPIO5 (io), 41 UART2_RTS_B (io), 42 GPIO8 (io), 43 UART2_TX (io), 44 GPIO9 (io), 45 UART2_RX (io), 48 UART1_RTS_B (io), 49 UART3_CTS_B (io), 50 UART1_CTS_B (io), 51 UART3_RTS_B (io), 52 UART1_TX (io), 53 UART3_RX (io), 54 UART1_RX (io), 55 UART3_TX (io), 59 UART4_TX (io), 61 UART4_RX (io), 63 UART5_TX (io), 64 AIN1/YNLR (io), 65 UART5_RX (io), 66 AIN2/YPLL (io), 68 AIN3/XNUR (io), 69 ENET_MDIO (io), 70 AIN4/XPUL (io), 71 ENET_MDC (io), 73 ENET2_TX_CLK (io), 74 LCD_D16 (io), 76 LCD_D15 (io), 77 ENET2_RX_ER (io), 78 LCD_D14 (io), 79 ENET2_RXDATA0 (io), 80 LCD_D13 (io), 81 ENET2_RXDATA1 (io), 83 ENET2_RX_EN (io), 84 LCD_D12 (io), 85 ENET2_TX_EN (io), 86 LCD_D11 (io), 87 ENET2_TXDATA0 (io), 88 LCD_D10 (io), 89 ENET2_TXDATA1 (io), 90 LCD_D9 (io), 93 LCD_D23 (io), 94 LCD_D8 (io), 95 LCD_D22 (io), 96 LCD_D7 (io), 97 LCD_D21 (io), 98 LCD_D6 (io), 99 LCD_D20 (io), 100 LCD_D5 (io), 101 LCD_D19 (io), 103 LCD_D18 (io), 104 LCD_D4 (io), 105 LCD_D17 (io), 106 LCD_D3 (io), 108 LCD_D2 (io), 109 NAND_WE_B (io), 110 LCD_D1 (io), 111 NAND_RE_B (io), 112 LCD_D0 (io), 113 NAND_DATA01 (io), 115 NAND_DATA02 (io), 116 LCD_HSYNC (io), 117 NAND_DATA03 (io), 118 LCD_RESET (io), 119 NAND_DATA04 (io), 120 LCD_VSYNC (io), 121 NAND_DATA05 (io), 123 NAND_DATA06 (io), 124 LCD_DOTCLK (io), 125 NAND_DATA07 (io), 127 NAND_ALE (io), 128 LCD_ENABLE (io), 131 CSI_D7 (io), 133 CSI_D6 (io), 135 CSI_D5 (io), 137 CSI_D4 (io), 139 CSI_D3 (io), 141 CSI_D2 (io), 143 CSI_D1 (io), 145 CSI_D0 (io), 147 CSI_VSYNC (io), 149 CSI_HSYNC (io), 153 CSI_PIXCLK (io), 157 CSI_MCLK (io), 197 POR_B (io), 198 BOOT_MODE0 (io), 199 ON/OFF (io), 200 BOOT_MODE1 (io)
part B pins: 1 GND (power), 2 GND (power), 7 GND (power), 13 GND (power), 19 GND (power), 24 GND (power), 25 GND (power), 31 GND (power), 36 GND (power), 37 GND (power), 46 GND (power), 47 GND (power), 56 GND (power), 57 GND (power), 62 GND (power), 67 GND (power), 72 GND (power), 75 GND (power), 82 GND (power), 91 GND (power), 92 GND (power), 102 GND (power), 107 GND (power), 114 GND (power), 122 GND (power), 126 GND (power), 129 GND (power), 151 GND (power), 155 GND (power), 159 GND (power), 201 +3V3 (power), 202 +3V3 (power), 203 +3V3 (power), 204 +3V3 (power), 205 SHLD (power)

## U_C_STM32F103RxT
designator U?, comment STM32F103RxT
ARM Cortex-M3 32-bit MCU, 51 I/Os, 64-pin LQFP; Manufacturer Part Number 1: STM32F103RET6; Manufacturer 1: STMicroelectronics; A/D Converter: 3x12-bit (16 Channel); D/A Converter: 2x12-bit (2 Channel); FLASH Size (Prog) (kB): 512; I/Os (High Current): 51; Internal RAM Size (kB): 64; Operating Frequency(F) (Processor speed) (MHz): 72; Packing: Tray; Supply Voltage(Vcc) min (V): 2; DatasheetVersion: Rev. 8; PackageVersion: Rev. 4, 06/2013; PackageReference: LQFP64; PackageDescription: 64-Pin Low Profile Quad Flat Package, 10 x 10 mm Body, 0.5 mm Pitch; Supplier 1: Digi-Key; Supplier Part Number 1: 497-6444-ND; Supplier 2: Farnell; Supplier Part Number 2: 1624138; Supplier 3: Newark; Supplier Part Number 3: 01P4101; Supplier 4: Newark; Supplier Part Number 4: 57P1231; Supplier 5: Mouser; Supplier Part Number 5: 511-STM32F103RET6; Core: ARM Cortex-M3; Mounting Technology: Surface Mount; ComponentLink1Description: Manufacturer URL; ComponentLink1URL: http://www.st.com/web/en/home.html; ComponentLink2Description: Datasheet; ComponentLink2URL: http://www.st.com/st-web-ui/static/active/en/resource/technical/document/datasheet/CD00191185.pdf; ComponentLink3Description: Package Specification; ComponentLink3URL: http://www.st.com/st-web-ui/static/active/en/resource/technical/document/datasheet/DM00037051.pdf
footprint STM-LQFP64_N (Thin QFP, 64-Leads, Body 10x10mm, Pitch 0.5mm, IPC Medium Density)
footprint STM-LQFP64_L (Thin QFP, 64-Leads, Body 10x10mm, Pitch 0.5mm, IPC High Density)
footprint STM-LQFP64_M (Thin QFP, 64-Leads, Body 10x10mm, Pitch 0.5mm, IPC Low Density)
footprint STM-LQFP64_V (Thin QFP, 64-Leads, Body 10x10mm, Pitch 0.5mm, ST Recommended)
part A pins: 2 PC13-TAMPER-RTC (io) "PC13-TAMPER-RTC/PC13/TAMPER-RTC", 3 PC14-OSC32_IN (io) "PC14-OSC32_IN/PC14/OSC32_IN", 4 PC15-OSC32_OUT (io) "PC15-OSC32_OUT/PC15/OSC32_OUT", 5 PD0-OSC_IN (io) "PD0/OSC_IN/CAN_RX", 6 PD1-OSC_OUT (io) "PD1/OSC_OUT/CAN_TX", 7 NRST (io), 8 PC0 (io) "PC0/ADC123_IN10", 9 PC1 (io) "PC1/ADC123_IN11", 10 PC2 (io) "PC2/ADC123_IN12", 11 PC3 (io) "PC3/ADC123_IN13", 14 PA0-WKUP (io) "PA0-WKUP/PA0/WKUP/USART2_CTS/ADC123_IN0/TIM2_CH1_ETR/TIM5_CH1/TIM8_ETR", 15 PA1 (io) "PA1/USART2_RTS/ADC123_IN1/TIM5_CH2/TIM2_CH2", 16 PA2 (io) "PA2/USART2_TX/TIM5_CH3/ADC123_IN2/TIM2_CH3", 17 PA3 (io) "PA3/USART2_RX/TIM5_CH4/ADC123_IN3/TIM2_CH4", 20 PA4 (io) "PA4/SPI1_NSS/USART2_CK/DAC_OUT1/ADC12_IN4", 21 PA5 (io) "PA5/SPI1_SCK/DAC_OUT2/ADC12_IN5", 22 PA6 (io) "PA6/SPI1_MISO/TIM8_BKIN/ADC12_IN6/TIM3_CH1/TIM1_BKIN", 23 PA7 (io) "PA7/SPI1_MOSI/TIM8_CH1N/ADC12_IN7/TIM3_CH2/TIM1_CH1N", 24 PC4 (io) "PC4/ADC12_IN14", 25 PC5 (io) "PC5/ADC12_IN15", 26 PB0 (io) "PB0/ADC12_IN8/TIM3_CH3/TIM8_CH2N/TIM1_CH2N", 27 PB1 (io) "PB1/ADC12_IN9/TIM3_CH4/TIM8_CH3N/TIM1_CH3N", 28 PB2 (io) "PB2/BOOT1", 29 PB10 (io) "PB10/I2C2_SCL/USART3_TX/TIM2_CH3", 30 PB11 (io) "PB11/I2C2_SDA/USART3_RX/TIM2_CH4", 33 PB12 (io) "PB12/SPI2_NSS/I2S2_WS/I2C2_SMBA/USART3_CK/TIM1_BKIN", 34 PB13 (io) "PB13/SPI2_SCK/I2S2_CK/USART3_CTS/TIM1_CH1N", 35 PB14 (io) "PB14/SPI2_MISO/TIM1_CH2N/USART3_RTS", 36 PB15 (io) "PB15/SPI2_MOSI/I2S2_SD/TIM1_CH3N", 37 PC6 (io) "PC6/I2S2_MCK/TIM8_CH1/SDIO_D6/TIM3_CH1", 38 PC7 (io) "PC7/I2S3_MCK/TIM8_CH2/SDIO_D7/TIM3_CH2", 39 PC8 (io) "PC8/TIM8_CH3/SDIO_D0/TIM3_CH3", 40 PC9 (io) "PC9/TIM8_CH4/SDIO_D1/TIM3_CH4", 41 PA8 (io) "PA8/USART1_CK/TIM1_CH1/MCO", 42 PA9 (io) "PA9/USART1_TX/TIM1_CH2", 43 PA10 (io) "PA10/USART1_RX/TIM1_CH3", 44 PA11 (io) "PA11/USART1_CTS/USBDM/CAN_RX/TIM1_CH4", 45 PA12 (io) "PA12/USART1_RTS/USBDP/CAN_TX/TIM1_ETR", 46 PA13 (io) "PA13/JTMS-SWDIO", 49 PA14 (io) "PA14/JTCK-SWCLK", 50 PA15 (io) "PA15/JTDI/SPI3_NSS/I2S3_WS/TIM2_CH1_ETR/SPI1_NSS", 51 PC10 (io) "PC10/UART4_TX/SDIO_D2/USART3_TX", 52 PC11 (io) "PC11/UART4_RX/SDIO_D3/USART3_RX", 53 PC12 (io) "PC12/UART5_TX/SDIO_CK/USART3_CK", 54 PD2 (io) "PD2/TIM3_ETR/UART5_RX/SDIO_CMD", 55 PB3 (io) "PB3/JTDO/SPI3_SCK/I2S3_CK/TRACESWO/TIM2_CH2/SPI1_SCK", 56 PB4 (io) "PB4/NJTRST/SPI3_MISO/TIM3_CH1/SPI1_MISO", 57 PB5 (io) "PB5/I2C1_SMBA/SPI3_MOSI/I2S3_SD/TIM3_CH2/SPI1_MOSI", 58 PB6 (io) "PB6/I2C1_SCL/TIM4_CH1/USART1_TX", 59 PB7 (io) "PB7/I2C1_SDA/TIM4_CH2/USART1_RX", 60 BOOT0 (in), 61 PB8 (io) "PB8/TIM4_CH3/SDIO_D4/I2C1_SCL/CAN_RX", 62 PB9 (io) "PB9/TIM4_CH4/SDIO_D5/I2C1_SDA/CAN_TX"
part B pins: 1 VBAT (power), 12 VSSA (power), 13 VDDA (power), 18 VSS_4 (power), 19 VDD_4 (power), 31 VSS_1 (power), 32 VDD_1 (power), 47 VSS_2 (power), 48 VDD_2 (power), 63 VSS_3 (power), 64 VDD_3 (power)

## U_D_MAX14874ETC+
designator U?, comment MAX14874ETC+
MAX14874ETC+ IC RELAY/VALVE/MOTOR DRIVER TDFN; Manufacturer 1: Maxim; ComponentLink1Description: Datasheet; ComponentLink1URL: https://datasheets.maximintegrated.com/en/ds/MAX14874.pdf; Supplier 1: Digi-Key; Supplier Part Number 1: MAX14874ETC+-ND; Manufacturer Part Number 1: MAX14874ETC+
footprint 12 TDFN-EP (12 TDFN-EP TD1233-1, IPC Medium Density)
pins: 1 COM1, 2 M1 (out), 3 VDD (power), 4 EN1 (in), 5 IN1 (in), 6 IN2 (in), 7 nFAULT (out), 8 EN2 (in), 9 GND (power), 10 VDD (power), 11 M2 (out), 12 COM2, 13 EP (power)

## U_G_74LVC1G08
designator U?, comment 74LVC1G08
IC GATE AND 1CH 2-INP 5-TSSOP; Manufacturer: Nexperia; Manufacturer Part Number: 74LVC1G08GW,125; Supplier 1: Digi-Key; Supplier Part Number 1: 1727-2872-1-ND; ComponentLink1Description: Datasheet; ComponentLink1URL: https://assets.nexperia.com/documents/data-sheet/74LVC1G08.pdf
footprint SOT353-1
part A pins: 1 B (in), 2 A (in), 4 Y (out)
part B pins: 3 GND (power), 5 VCC (power)

## U_G_74LVC1G11
designator U?, comment 74LVC1G11
IC GATE AND 1CH 3-INP 6-TSSOP; Manufacturer 1: NXP Semiconductors; Manufacturer Part Number 1: 74LVC1G11GW,125; Case/Package: SOT-363; ComponentLink1URL: https://datasheet.ciiva.com/26940/getdatasheetpartid-189984-26940189.pdf; ComponentLink1Description: https://datasheet.ciiva.com/26940/getdatasheetpartid-189984-26940189.pdf; ComponentLink2URL: https://datasheet.ciiva.com/8276/74lvc1g11-8276967.pdf; ComponentLink2Description: https://datasheet.ciiva.com/8276/74lvc1g11-8276967.pdf; ComponentLink3URL: https://datasheet.ciiva.com/16199/74lvc1g11-16199465.pdf; ComponentLink3Description: https://datasheet.ciiva.com/16199/74lvc1g11-16199465.pdf; ComponentLink4URL: https://datasheet.ciiva.com/1862/74lvc1g11-1862689.pdf; ComponentLink4Description: https://datasheet.ciiva.com/1862/74lvc1g11-1862689.pdf; ComponentLink5URL: https://datasheet.ciiva.com/1862/74lvc1g11-1862690.pdf; ComponentLink5Description: https://datasheet.ciiva.com/1862/74lvc1g11-1862690.pdf; ComponentLink6URL: https://datasheet.ciiva.com/1862/74lvc1g11-1862691.pdf; ComponentLink6Description: https://datasheet.ciiva.com/1862/74lvc1g11-1862691.pdf; ComponentLink7URL: https://datasheet.ciiva.com/8249/74lvc1g11-8249862.pdf; ComponentLink7Description: https://datasheet.ciiva.com/8249/74lvc1g11-8249862.pdf; Supplier 1: Digi-Key; Supplier Part Number 1: 1727-6065-1-ND
footprint SOT363 (SOT23, 6-Leads, Body 2.05x2.13mm, Pitch 0.65mm, IPC Medium Density)
part A pins: 1 A (in), 3 B (in), 4 Y (out), 6 C (in)
part B pins: 2 GND (power), 5 VCC (power)

## U_G_74LVC1G14
designator U?, comment 74LVC1G14
IC SCHMITT-TRIG INV 5TSSOP; Manufacturer 1: NXP Semiconductors; Manufacturer Part Number 1: 74LVC1G14GW,125; Supplier 1: Digi-Key; Supplier Part Number 1: 1727-3072-1-ND; Case/Package: TSSOP; ComponentLink1URL: https://datasheet.ciiva.com/25628/0900766b80b49d88-25628672.pdf; ComponentLink1Description: https://datasheet.ciiva.com/25628/0900766b80b49d88-25628672.pdf; ComponentLink2URL: https://datasheet.ciiva.com/1870/74lvc1g14-1870507.pdf; ComponentLink2Description: https://datasheet.ciiva.com/1870/74lvc1g14-1870507.pdf; ComponentLink3URL: https://datasheet.ciiva.com/33720/1645573-33720426.pdf; ComponentLink3Description: https://datasheet.ciiva.com/33720/1645573-33720426.pdf; ComponentLink4URL: https://datasheet.ciiva.com/8248/74lvc1g14-8248861.pdf; ComponentLink4Description: https://datasheet.ciiva.com/8248/74lvc1g14-8248861.pdf; ComponentLink5URL: https://datasheet.ciiva.com/1870/74lvc1g14-1870508.pdf; ComponentLink5Description: https://datasheet.ciiva.com/1870/74lvc1g14-1870508.pdf; ComponentLink6URL: https://datasheet.ciiva.com/1870/74lvc1g14-1870505.pdf; ComponentLink6Description: https://datasheet.ciiva.com/1870/74lvc1g14-1870505.pdf; ComponentLink7URL: https://datasheet.ciiva.com/22666/1645573-22666389.pdf; ComponentLink7Description: https://datasheet.ciiva.com/22666/1645573-22666389.pdf; ComponentLink8URL: https://datasheet.ciiva.com/16676/74lvc1g14-16676997.pdf; ComponentLink8Description: https://datasheet.ciiva.com/16676/74lvc1g14-16676997.pdf; ComponentLink9URL: https://datasheet.ciiva.com/36857/1645573-36857960.pdf; ComponentLink9Description: https://datasheet.ciiva.com/36857/1645573-36857960.pdf; ComponentLink10URL: https://datasheet.ciiva.com/36858/1645573-36858439.pdf; ComponentLink10Description: https://datasheet.ciiva.com/36858/1645573-36858439.pdf
footprint SOT353-1
part A pins: 2 A (in), 4 Y (out)
part B pins: 3 GND (power), 5 VCC (power)